# EAGLE library part OPA2140AIDGKT (library MDB_HOMEBAK)
11MHz JFET Op Amp
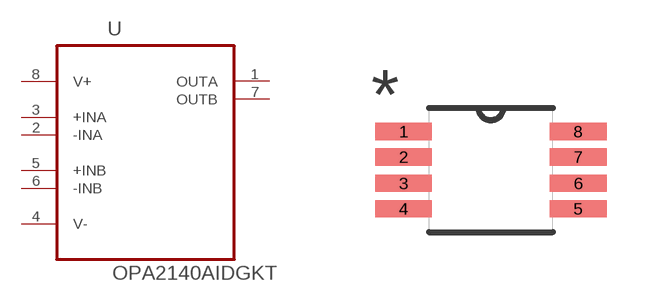
[diagram p40: symbol with the pads of SOP65P490X110-8N; footprint SOP65P490X110-8N]

Designator prefix U

## OPA2140AIDGKT (MPN: OPA2140AIDGKT; OC_FARNELL: 1855120; OC_NEWARK: 01T0585; PACKAGE: MSOP-8; SUPPLIER: Texas Instruments)  [SOP65P490X110-8N]
1  OUTA  out
2  -INA  in
3  +INA  in
4  V-  pwr
5  +INB  in
6  -INB  in
7  OUTB  out
8  V+  pwr

## Footprint SOP65P490X110-8N (pad centres in mm)
smd 1.422 x 0.432: 1 -2.184,0.965; 2 -2.184,0.33; 3 -2.184,-0.33; 4 -2.184,-0.965; 5 2.184,-0.965; 6 2.184,-0.33; 7 2.184,0.33; 8 2.184,0.965